# EAGLE library part TRIPLE_DIODE (library Victor)
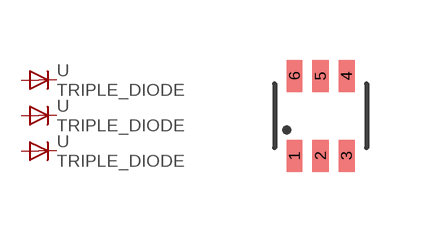
[diagram p1: symbol with the pads of SOT-363-6; footprint SOT-363-6]

Designator prefix -

## TRIPLE_DIODE  [SOT-363-6]
1  1  pas
2  2  pas
3  3  pas
4  4  pas
5  5  pas
6  6  pas

## Footprint SOT-363-6 (pad centres in mm)
smd 0.4 x 0.8: 1 -0.65,-1; 2 0,-1; 3 0.65,-1; 4 0.65,1; 5 0,1; 6 -0.65,1